# EAGLE library part RTE44012F (library RTE44012F)
General Purpose Relays DPST-NO 8A 12VDC Source: Datasheet <https://componentsearchengine.com/Datasheets/1/RTE44012F.pdf>
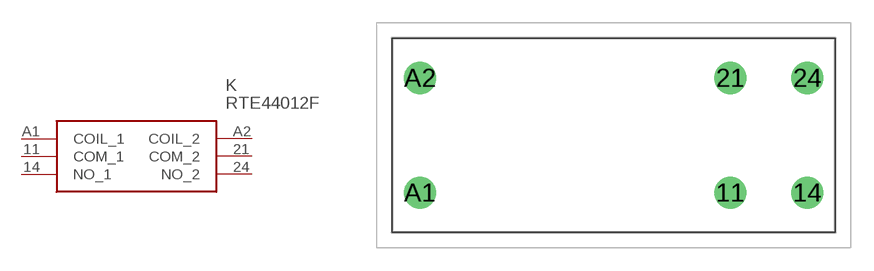
[diagram p0: symbol with the pads of RTE44012F; footprint RTE44012F]

Designator prefix K

## RTE44012F (Arrow_Part_Number: RTE44012F; Arrow_Price-Stock: https://www.arrow.com/en/products/rte44012f/te-connectivity; Description: General Purpose Relays DPST-NO 8A 12VDC; Height: 15.7mm; Manufacturer_Name: TE Connectivity; Manufacturer_Part_Number: RTE44012F; Mouser_Part_Number: 655-RTE44012F; Mouser_Price-Stock: https://www.mouser.co.uk/ProductDetail/TE-Connectivity-Schrack/RTE44012F?qs=Y5%2F84ptk%252BSrIWNIdEjPZnw%3D%3D)  [RTE44012F]
11  COM_1
14  NO_1
21  COM_2
24  NO_2
A1  COIL_1
A2  COIL_2

## Footprint RTE44012F (pad centres in mm)
RTE44012F-2
drill 1.4 pad 2.1: 11 0,0; 14 5.04,0; 21 0,7.5; 24 5.04,7.5; A1 -20.3,0; A2 -20.3,7.5